# EAGLE library part ATMEGA640/1280/2560 (library atmel-avr)
MICROCONTROLLER 64K/128K/256K Flash 8K Bytes Internal SRAM 4K Bytes EEPROM
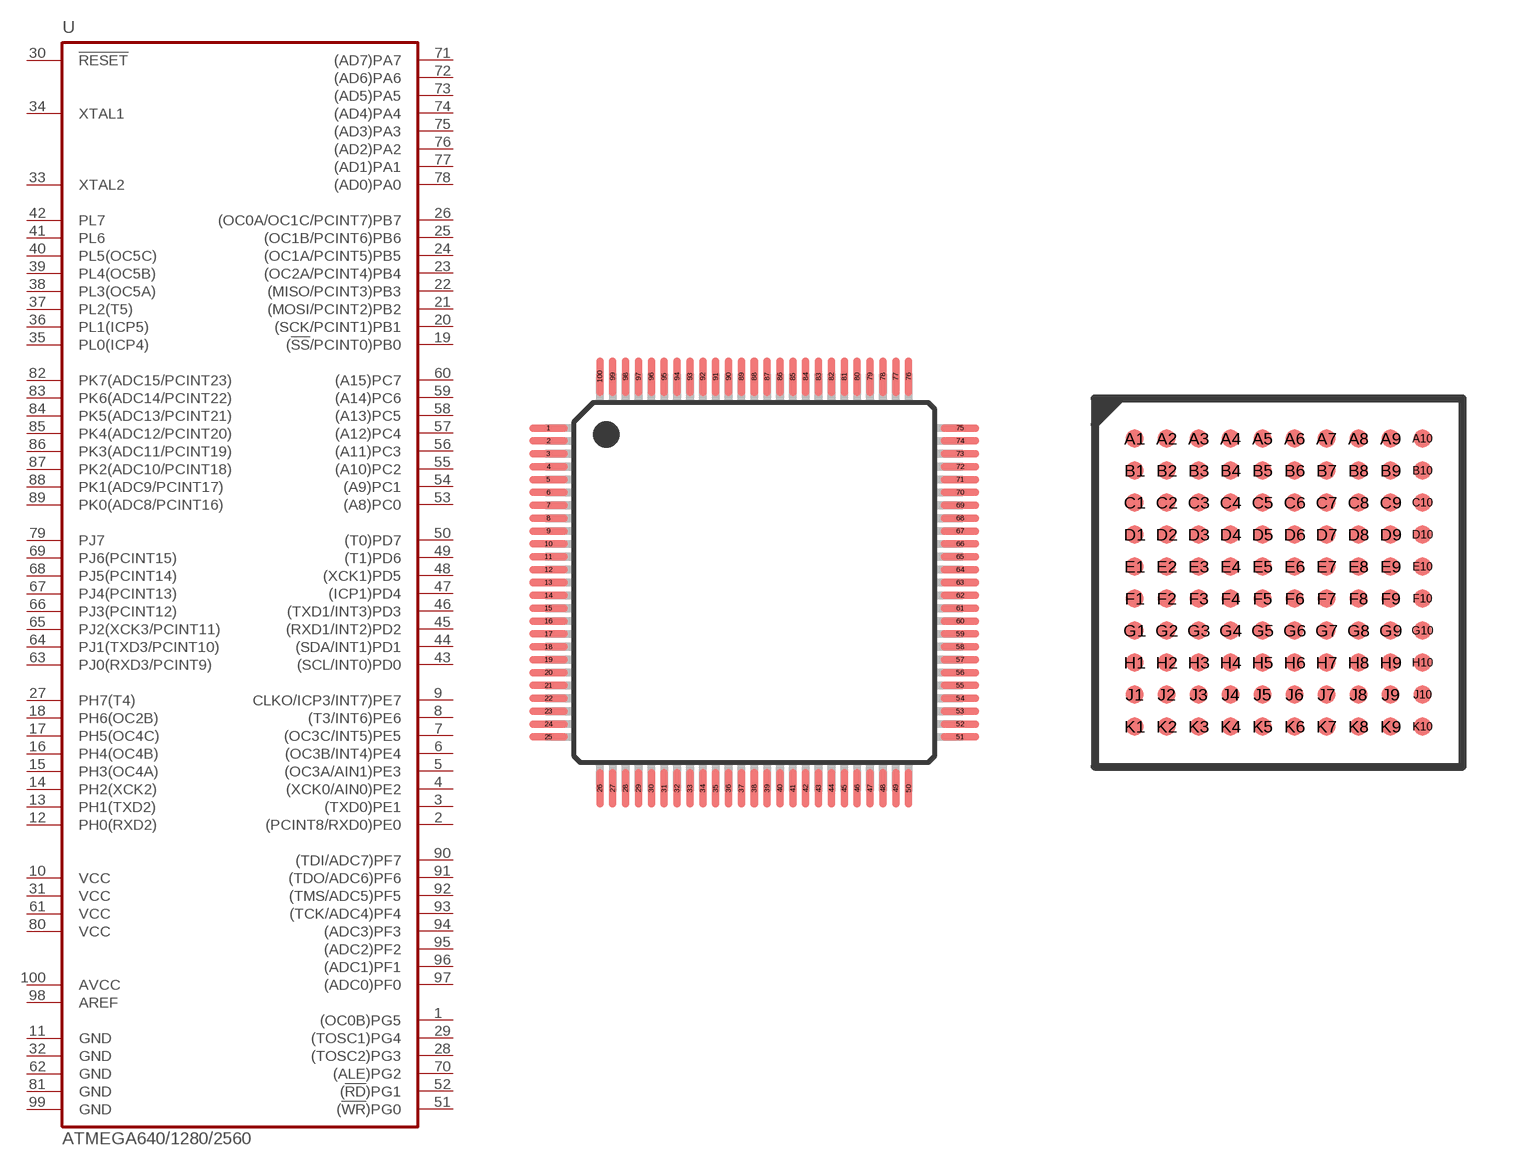
[diagram p11: symbol with the pads of TQFP100A; footprints TQFP100A, CBGA100]

Designator prefix U

## ATMEGA640/1280/2560-A  [TQFP100A]
1  (OC0B)PG5
2  (PCINT8/RXD0)PE0
3  (TXD0)PE1
4  (XCK0/AIN0)PE2
5  (OC3A/AIN1)PE3
6  (OC3B/INT4)PE4
7  (OC3C/INT5)PE5
8  (T3/INT6)PE6
9  CLKO/ICP3/INT7)PE7
10  VCC  pwr
11  GND  pwr
12  PH0(RXD2)
13  PH1(TXD2)
14  PH2(XCK2)
15  PH3(OC4A)
16  PH4(OC4B)
17  PH5(OC4C)
18  PH6(OC2B)
19  (!SS!/PCINT0)PB0
20  (SCK/PCINT1)PB1
21  (MOSI/PCINT2)PB2
22  (MISO/PCINT3)PB3
23  (OC2A/PCINT4)PB4
24  (OC1A/PCINT5)PB5
25  (OC1B/PCINT6)PB6
26  (OC0A/OC1C/PCINT7)PB7
27  PH7(T4)
28  (TOSC2)PG3
29  (TOSC1)PG4
30  !RESET!  in
31  VCC  pwr
32  GND  pwr
33  XTAL2  pas
34  XTAL1  pas
35  PL0(ICP4)
36  PL1(ICP5)
37  PL2(T5)
38  PL3(OC5A)
39  PL4(OC5B)
40  PL5(OC5C)
41  PL6
42  PL7
43  (SCL/INT0)PD0
44  (SDA/INT1)PD1
45  (RXD1/INT2)PD2
46  (TXD1/INT3)PD3
47  (ICP1)PD4
48  (XCK1)PD5
49  (T1)PD6
50  (T0)PD7
51  (!WR!)PG0
52  (!RD!)PG1
53  (A8)PC0
54  (A9)PC1
55  (A10)PC2
56  (A11)PC3
57  (A12)PC4
58  (A13)PC5
59  (A14)PC6
60  (A15)PC7
61  VCC  pwr
62  GND  pwr
63  PJ0(RXD3/PCINT9)
64  PJ1(TXD3/PCINT10)
65  PJ2(XCK3/PCINT11)
66  PJ3(PCINT12)
67  PJ4(PCINT13)
68  PJ5(PCINT14)
69  PJ6(PCINT15)
70  (ALE)PG2
71  (AD7)PA7
72  (AD6)PA6
73  (AD5)PA5
74  (AD4)PA4
75  (AD3)PA3
76  (AD2)PA2
77  (AD1)PA1
78  (AD0)PA0
79  PJ7
80  VCC  pwr
81  GND  pwr
82  PK7(ADC15/PCINT23)
83  PK6(ADC14/PCINT22)
84  PK5(ADC13/PCINT21)
85  PK4(ADC12/PCINT20)
86  PK3(ADC11/PCINT19)
87  PK2(ADC10/PCINT18)
88  PK1(ADC9/PCINT17)
89  PK0(ADC8/PCINT16)
90  (TDI/ADC7)PF7  in
91  (TDO/ADC6)PF6  out
92  (TMS/ADC5)PF5  in
93  (TCK/ADC4)PF4  in
94  (ADC3)PF3
95  (ADC2)PF2
96  (ADC1)PF1
97  (ADC0)PF0
98  AREF  pas
99  GND  pwr
100  AVCC  pwr

## ATMEGA640/1280/2560-C1  [CBGA100]
A1  GND  pwr
A2  AREF  pas
A3  (ADC0)PF0
A4  (ADC2)PF2
A5  (TMS/ADC5)PF5  in
A6  PK0(ADC8/PCINT16)
A7  PK3(ADC11/PCINT19)
A8  PK6(ADC14/PCINT22)
A9  GND  pwr
A10  VCC  pwr
B1  AVCC  pwr
B2  (OC0B)PG5
B3  (ADC1)PF1
B4  (ADC3)PF3
B5  (TDO/ADC6)PF6  out
B6  PK1(ADC9/PCINT17)
B7  PK4(ADC12/PCINT20)
B8  PK7(ADC15/PCINT23)
B9  (AD0)PA0
B10  (AD2)PA2
C1  (XCK0/AIN0)PE2
C2  (PCINT8/RXD0)PE0
C3  (TXD0)PE1
C4  (TCK/ADC4)PF4  in
C5  (TDI/ADC7)PF7  in
C6  PK2(ADC10/PCINT18)
C7  PK5(ADC13/PCINT21)
C8  PJ7
C9  (AD1)PA1
C10  (AD3)PA3
D1  (OC3A/AIN1)PE3
D2  (OC3B/INT4)PE4
D3  (OC3C/INT5)PE5
D4  (T3/INT6)PE6
D5  PH2(XCK2)
D6  (AD4)PA4
D7  (AD5)PA5
D8  (AD6)PA6
D9  (AD7)PA7
D10  (ALE)PG2
E1  CLKO/ICP3/INT7)PE7
E2  PH0(RXD2)
E3  PH1(TXD2)
E4  PH3(OC4A)
E5  PH5(OC4C)
E6  PJ6(PCINT15)
E7  PJ5(PCINT14)
E8  PJ4(PCINT13)
E9  PJ3(PCINT12)
E10  PJ2(XCK3/PCINT11)
F1  VCC  pwr
F2  PH4(OC4B)
F3  PH6(OC2B)
F4  (!SS!/PCINT0)PB0
F5  PL4(OC5B)
F6  (SDA/INT1)PD1
F7  PJ1(TXD3/PCINT10)
F8  PJ0(RXD3/PCINT9)
F9  (A15)PC7
F10  GND  pwr
G1  GND  pwr
G2  (SCK/PCINT1)PB1
G3  (MOSI/PCINT2)PB2
G4  (OC1A/PCINT5)PB5
G5  PL2(T5)
G6  (SCL/INT0)PD0
G7  (XCK1)PD5
G8  (A13)PC5
G9  (A14)PC6
G10  VCC  pwr
H1  (MISO/PCINT3)PB3
H2  (OC2A/PCINT4)PB4
H3  !RESET!  in
H4  PL1(ICP5)
H5  PL3(OC5A)
H6  PL7
H7  (ICP1)PD4
H8  (A12)PC4
H9  (A11)PC3
H10  (A10)PC2
J1  PH7(T4)
J2  (TOSC2)PG3
J3  (OC1B/PCINT6)PB6
J4  PL0(ICP4)
J5  XTAL2  pas
J6  PL6
J7  (TXD1/INT3)PD3
J8  (A9)PC1
J9  (A8)PC0
J10  (!RD!)PG1
K1  (OC0A/OC1C/PCINT7)PB7
K2  (TOSC1)PG4
K3  VCC  pwr
K4  GND  pwr
K5  XTAL1  pas
K6  PL5(OC5C)
K7  (RXD1/INT2)PD2
K8  (T1)PD6
K9  (T0)PD7
K10  (!WR!)PG0

## Footprint TQFP100A (pad centres in mm)
Thin Profile Plastic Quad Flat Package (TQFP) 100-lead, 14 x 14 mm Body Size, 1.0 mm Body Thickness, 0.5 mm Lead Pitch,
smd 1.5 x 0.3: 1 -8,6; 2 -8,5.5; 3 -8,5; 4 -8,4.5; 5 -8,4; 6 -8,3.5; 7 -8,3; 8 -8,2.5; 9 -8,2; 10 -8,1.5; 11 -8,1; 12 -8,0.5; 13 -8,0; 14 -8,-0.5; 15 -8,-1; 16 -8,-1.5; 17 -8,-2; 18 -8,-2.5; 19 -8,-3; 20 -8,-3.5; 21 -8,-4; 22 -8,-4.5; 23 -8,-5; 24 -8,-5.5; 25 -8,-6; 51 8,-6; 52 8,-5.5; 53 8,-5; 54 8,-4.5; 55 8,-4; 56 8,-3.5; 57 8,-3; 58 8,-2.5; 59 8,-2; 60 8,-1.5; 61 8,-1; 62 8,-0.5; 63 8,0; 64 8,0.5; 65 8,1; 66 8,1.5; 67 8,2; 68 8,2.5; 69 8,3; 70 8,3.5; 71 8,4; 72 8,4.5; 73 8,5; 74 8,5.5; 75 8,6
smd 0.3 x 1.5: 26 -6,-8; 27 -5.5,-8; 28 -5,-8; 29 -4.5,-8; 30 -4,-8; 31 -3.5,-8; 32 -3,-8; 33 -2.5,-8; 34 -2,-8; 35 -1.5,-8; 36 -1,-8; 37 -0.5,-8; 38 0,-8; 39 0.5,-8; 40 1,-8; 41 1.5,-8; 42 2,-8; 43 2.5,-8; 44 3,-8; 45 3.5,-8; 46 4,-8; 47 4.5,-8; 48 5,-8; 49 5.5,-8; 50 6,-8; 76 6,8; 77 5.5,8; 78 5,8; 79 4.5,8; 80 4,8; 81 3.5,8; 82 3,8; 83 2.5,8; 84 2,8; 85 1.5,8; 86 1,8; 87 0.5,8; 88 0,8; 89 -0.5,8; 90 -1,8; 91 -1.5,8; 92 -2,8; 93 -2.5,8; 94 -3,8; 95 -3.5,8; 96 -4,8; 97 -4.5,8; 98 -5,8; 99 -5.5,8; 100 -6,8

## Footprint CBGA100 (pad centres in mm)
Chip Array BGA Package (CBGA) 100C1, 100-ball, 9 x 9 x 1.2 mm Body, Ball Pitch 0.80 mm
smd 0.45 x 0.45: A1 -3.6,3.6; A2 -2.8,3.6; A3 -2,3.6; A4 -1.2,3.6; A5 -0.4,3.6; A6 0.4,3.6; A7 1.2,3.6; A8 2,3.6; A9 2.8,3.6; A10 3.6,3.6; B1 -3.6,2.8; B2 -2.8,2.8; B3 -2,2.8; B4 -1.2,2.8; B5 -0.4,2.8; B6 0.4,2.8; B7 1.2,2.8; B8 2,2.8; B9 2.8,2.8; B10 3.6,2.8; C1 -3.6,2; C2 -2.8,2; C3 -2,2; C4 -1.2,2; C5 -0.4,2; C6 0.4,2; C7 1.2,2; C8 2,2; C9 2.8,2; C10 3.6,2; D1 -3.6,1.2; D2 -2.8,1.2; D3 -2,1.2; D4 -1.2,1.2; D5 -0.4,1.2; D6 0.4,1.2; D7 1.2,1.2; D8 2,1.2; D9 2.8,1.2; D10 3.6,1.2; E1 -3.6,0.4; E2 -2.8,0.4; E3 -2,0.4; E4 -1.2,0.4; E5 -0.4,0.4; E6 0.4,0.4; E7 1.2,0.4; E8 2,0.4; E9 2.8,0.4; E10 3.6,0.4; F1 -3.6,-0.4; F2 -2.8,-0.4; F3 -2,-0.4; F4 -1.2,-0.4; F5 -0.4,-0.4; F6 0.4,-0.4; F7 1.2,-0.4; F8 2,-0.4; F9 2.8,-0.4; F10 3.6,-0.4; G1 -3.6,-1.2; G2 -2.8,-1.2; G3 -2,-1.2; G4 -1.2,-1.2; G5 -0.4,-1.2; G6 0.4,-1.2; G7 1.2,-1.2; G8 2,-1.2; G9 2.8,-1.2; G10 3.6,-1.2; H1 -3.6,-2; H2 -2.8,-2; H3 -2,-2; H4 -1.2,-2; H5 -0.4,-2; H6 0.4,-2; H7 1.2,-2; H8 2,-2; H9 2.8,-2; H10 3.6,-2; J1 -3.6,-2.8; J2 -2.8,-2.8; J3 -2,-2.8; J4 -1.2,-2.8; J5 -0.4,-2.8; J6 0.4,-2.8; J7 1.2,-2.8; J8 2,-2.8; J9 2.8,-2.8; J10 3.6,-2.8; K1 -3.6,-3.6; K2 -2.8,-3.6; K3 -2,-3.6; K4 -1.2,-3.6; K5 -0.4,-3.6; K6 0.4,-3.6; K7 1.2,-3.6; K8 2,-3.6; K9 2.8,-3.6; K10 3.6,-3.6